# EAGLE library part AS5147P (library ams)
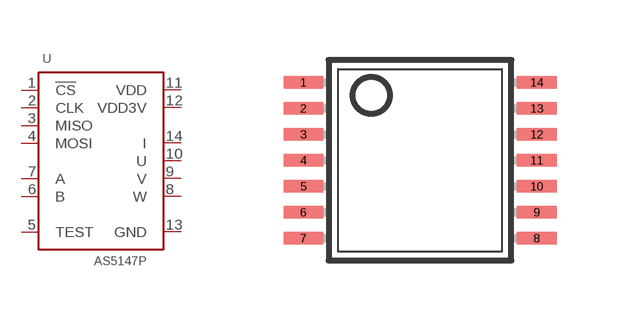
[diagram p0: symbol with the pads of TSSOP-14; footprint TSSOP-14]

Designator prefix -

## AS5147P  [TSSOP-14]
1  !CS
2  CLK
3  MISO
4  MOSI
5  TEST
6  B
7  A
8  W
9  V
10  U
11  VDD
12  VDD3V
13  GND
14  I

## Footprint TSSOP-14 (pad centres in mm)
smd 0.991 x 0.305: 1 -2.918,1.95; 2 -2.918,1.3; 3 -2.918,0.65; 4 -2.918,0; 5 -2.918,-0.65; 6 -2.918,-1.3; 7 -2.918,-1.95; 8 2.918,-1.95; 9 2.918,-1.3; 10 2.918,-0.65; 11 2.918,0; 12 2.918,0.65; 13 2.918,1.3; 14 2.918,1.95